# EAGLE library part LM13700 (library texas-instruments)
LM13700 - 2MHz Operational Transconductance Amplifier http://www.ti.com/lit/ds/symlink/lm13700.pdf
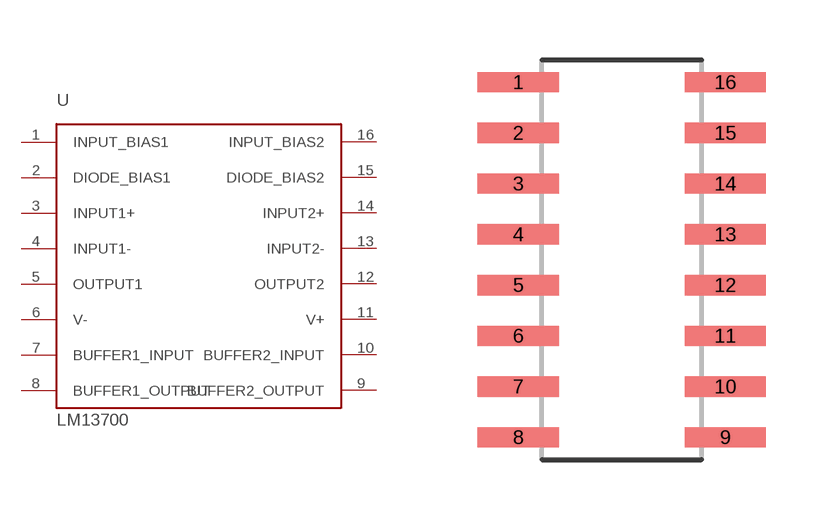
[diagram p1: symbol with the pads of SOIC-16; footprint SOIC-16]

Designator prefix -

## LM13700  [SOIC-16]
1  INPUT_BIAS1
2  DIODE_BIAS1
3  INPUT1+
4  INPUT1-
5  OUTPUT1
6  V-
7  BUFFER1_INPUT
8  BUFFER1_OUTPUT
9  BUFFER2_OUTPUT
10  BUFFER2_INPUT
11  V+
12  OUTPUT2
13  INPUT2-
14  INPUT2+
15  DIODE_BIAS2
16  INPUT_BIAS2

## Footprint SOIC-16 (pad centres in mm)
smd 2.032 x 0.508: 1 -2.591,4.445; 2 -2.591,3.175; 3 -2.591,1.905; 4 -2.591,0.635; 5 -2.591,-0.635; 6 -2.591,-1.905; 7 -2.591,-3.175; 8 -2.591,-4.445; 9 2.591,-4.445; 10 2.591,-3.175; 11 2.591,-1.905; 12 2.591,-0.635; 13 2.591,0.635; 14 2.591,1.905; 15 2.591,3.175; 16 2.591,4.445